# Altium schematic symbol library Connector.SchLib: 37 symbols
Pins are listed as number, name and electrical type; pins without a type are passive.

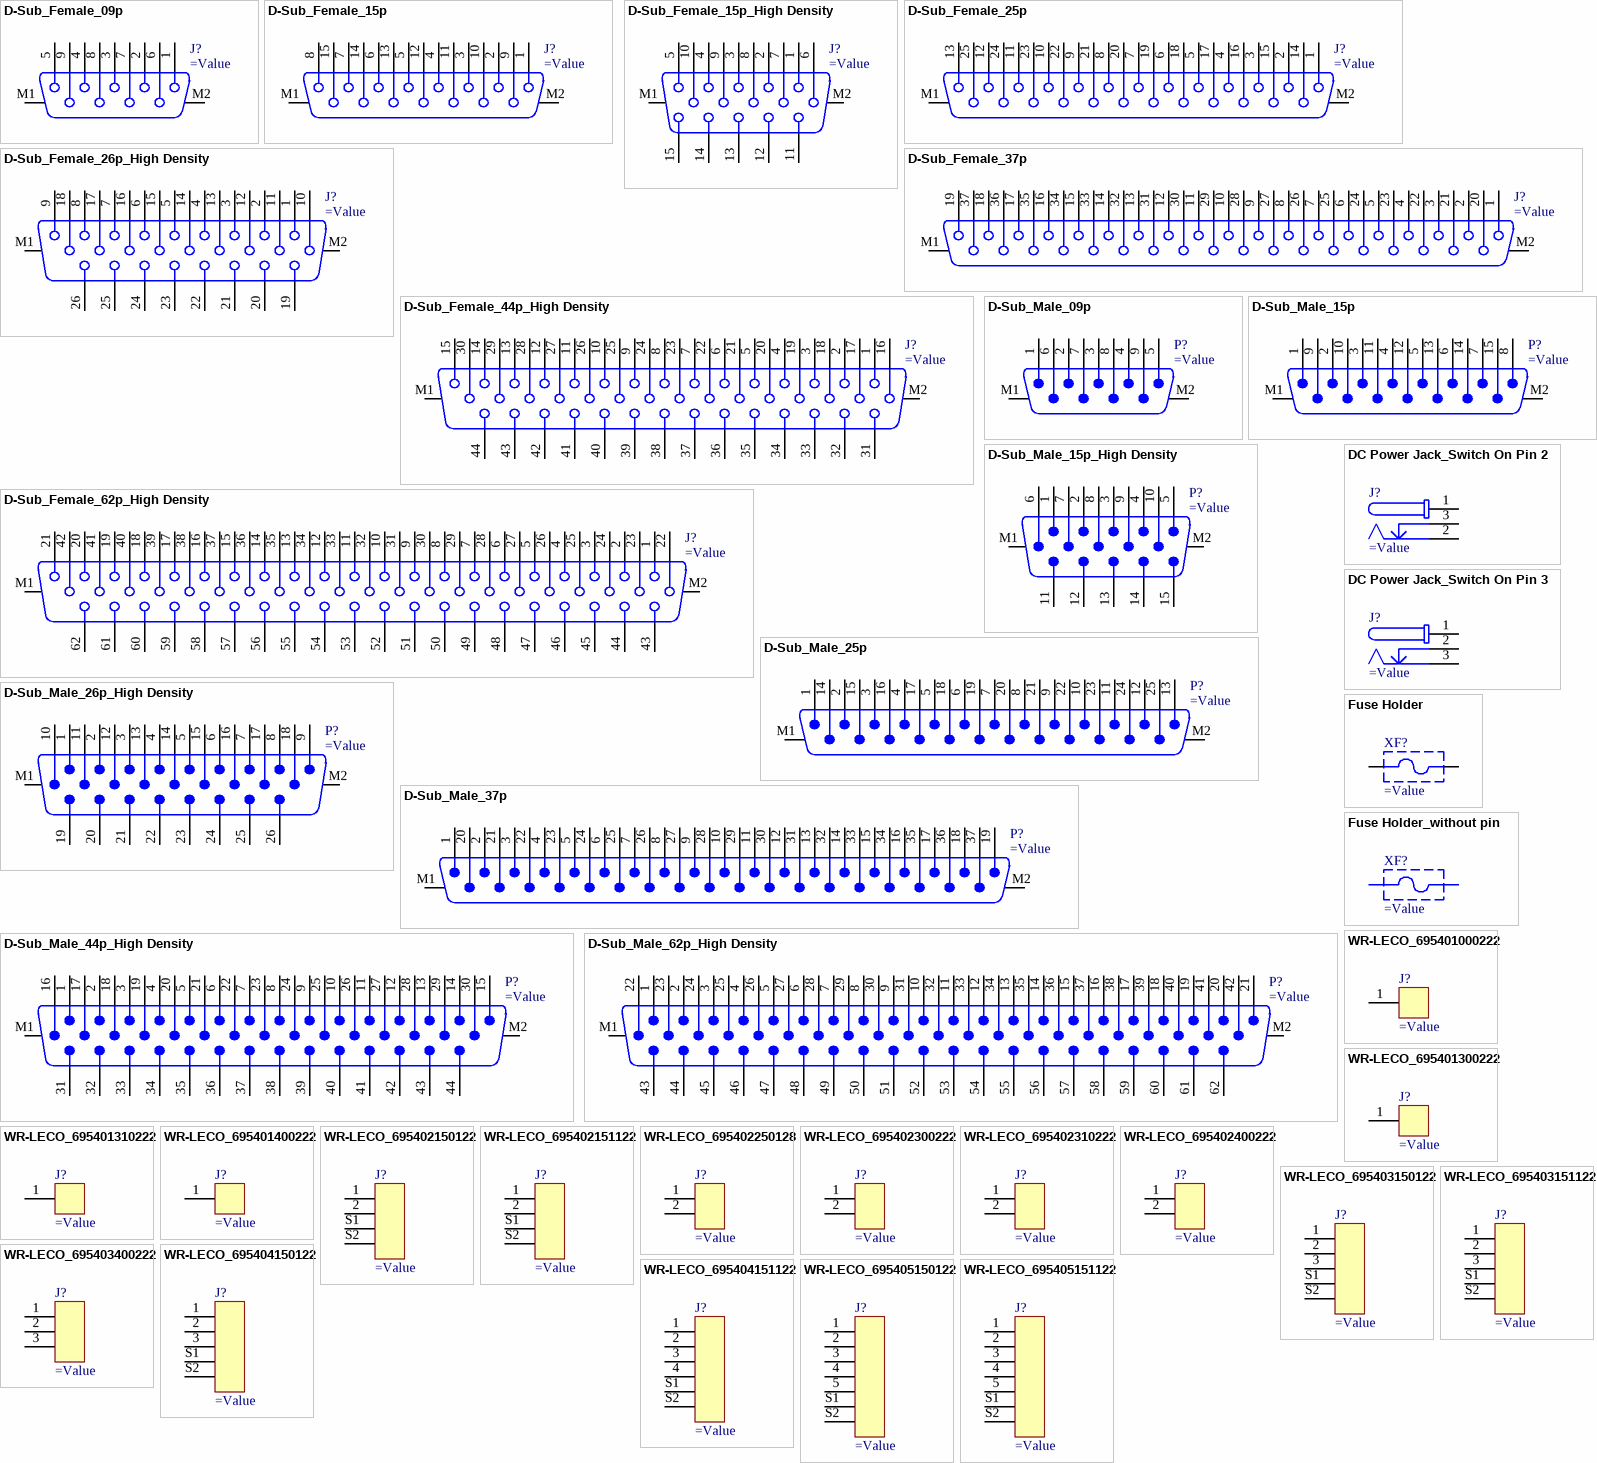
[diagram p0: symbols D-Sub_Female_09p to WR-LECO_695405151122]

## D-Sub_Female_09p
designator J?
pins: 1, 2, 3, 4, 5, 6, 7, 8, 9, M1, M2

## D-Sub_Female_15p
designator J?
pins: 1, 2, 3, 4, 5, 6, 7, 8, 9, 10, 11, 12, 13, 14, 15, M1, M2

## D-Sub_Female_15p_High Density
designator J?
pins: 1, 2, 3, 4, 5, 6, 7, 8, 9, 10, 11, 12, 13, 14, 15, M1, M2

## D-Sub_Female_25p
designator J?
pins: 1, 2, 3, 4, 5, 6, 7, 8, 9, 10, 11, 12, 13, 14, 15, 16, 17, 18, 19, 20, 21, 22, 23, 24, 25, M1, M2

## D-Sub_Female_26p_High Density
designator J?
pins: 1, 2, 3, 4, 5, 6, 7, 8, 9, 10, 11, 12, 13, 14, 15, 16, 17, 18, 19, 20, 21, 22, 23, 24, 25, 26, M1, M2

## D-Sub_Female_37p
designator J?
pins: 1, 2, 3, 4, 5, 6, 7, 8, 9, 10, 11, 12, 13, 14, 15, 16, 17, 18, 19, 20, 21, 22, 23, 24, 25, 26, 27, 28, 29, 30, 31, 32, 33, 34, 35, 36, 37, M1, M2

## D-Sub_Female_44p_High Density
designator J?
pins: 1, 2, 3, 4, 5, 6, 7, 8, 9, 10, 11, 12, 13, 14, 15, 16, 17, 18, 19, 20, 21, 22, 23, 24, 25, 26, 27, 28, 29, 30, 31, 32, 33, 34, 35, 36, 37, 38, 39, 40, 41, 42, 43, 44, M1, M2

## D-Sub_Female_62p_High Density
designator J?
pins: 1, 2, 3, 4, 5, 6, 7, 8, 9, 10, 11, 12, 13, 14, 15, 16, 17, 18, 19, 20, 21, 22, 23, 24, 25, 26, 27, 28, 29, 30, 31, 32, 33, 34, 35, 36, 37, 38, 39, 40, 41, 42, 43, 44, 45, 46, 47, 48, 49, 50, 51, 52, 53, 54, 55, 56, 57, 58, 59, 60, 61, 62, M1, M2

## D-Sub_Male_09p
designator P?
pins: 1, 2, 3, 4, 5, 6, 7, 8, 9, M1, M2

## D-Sub_Male_15p
designator P?
pins: 1, 2, 3, 4, 5, 6, 7, 8, 9, 10, 11, 12, 13, 14, 15, M1, M2

## D-Sub_Male_15p_High Density
designator P?
pins: 1, 2, 3, 4, 5, 6, 7, 8, 9, 10, 11, 12, 13, 14, 15, M1, M2

## D-Sub_Male_25p
designator P?
pins: 1, 2, 3, 4, 5, 6, 7, 8, 9, 10, 11, 12, 13, 14, 15, 16, 17, 18, 19, 20, 21, 22, 23, 24, 25, M1, M2

## D-Sub_Male_26p_High Density
designator P?
pins: 1, 2, 3, 4, 5, 6, 7, 8, 9, 10, 11, 12, 13, 14, 15, 16, 17, 18, 19, 20, 21, 22, 23, 24, 25, 26, M1, M2

## D-Sub_Male_37p
designator P?
pins: 1, 2, 3, 4, 5, 6, 7, 8, 9, 10, 11, 12, 13, 14, 15, 16, 17, 18, 19, 20, 21, 22, 23, 24, 25, 26, 27, 28, 29, 30, 31, 32, 33, 34, 35, 36, 37, M1, M2

## D-Sub_Male_44p_High Density
designator P?
pins: 1, 2, 3, 4, 5, 6, 7, 8, 9, 10, 11, 12, 13, 14, 15, 16, 17, 18, 19, 20, 21, 22, 23, 24, 25, 26, 27, 28, 29, 30, 31, 32, 33, 34, 35, 36, 37, 38, 39, 40, 41, 42, 43, 44, M1, M2

## D-Sub_Male_62p_High Density
designator P?
pins: 1, 2, 3, 4, 5, 6, 7, 8, 9, 10, 11, 12, 13, 14, 15, 16, 17, 18, 19, 20, 21, 22, 23, 24, 25, 26, 27, 28, 29, 30, 31, 32, 33, 34, 35, 36, 37, 38, 39, 40, 41, 42, 43, 44, 45, 46, 47, 48, 49, 50, 51, 52, 53, 54, 55, 56, 57, 58, 59, 60, 61, 62, M1, M2

## DC Power Jack_Switch On Pin 2
designator J?
pins: 1, 2, 3

## DC Power Jack_Switch On Pin 3
designator J?
pins: 1, 2, 3

## Fuse Holder
designator XF?
pins: 1, 2

## Fuse Holder_without pin
designator XF?

## WR-LECO_695401000222
designator J?
pins: 1

## WR-LECO_695401300222
designator J?
pins: 1

## WR-LECO_695401310222
designator J?
pins: 1

## WR-LECO_695401400222
designator J?
pins: 1

## WR-LECO_695402150122
designator J?
pins: 1, 2, S1 Shell, S2 Shell

## WR-LECO_695402151122
designator J?
pins: 1, 2, S1 Shell, S2 Shell

## WR-LECO_695402250128
designator J?
pins: 1, 2

## WR-LECO_695402300222
designator J?
pins: 1, 2

## WR-LECO_695402310222
designator J?
pins: 1, 2

## WR-LECO_695402400222
designator J?
pins: 1, 2

## WR-LECO_695403150122
designator J?
pins: 1, 2, 3, S1 Shell, S2 Shell

## WR-LECO_695403151122
designator J?
pins: 1, 2, 3, S1 Shell, S2 Shell

## WR-LECO_695403400222
designator J?
pins: 1, 2, 3

## WR-LECO_695404150122
designator J?
pins: 1, 2, 3, S1 Shell, S2 Shell

## WR-LECO_695404151122
designator J?
pins: 1, 2, 3, 4, S1 Shell, S2 Shell

## WR-LECO_695405150122
designator J?
pins: 1, 2, 3, 4, 5, S1 Shell, S2 Shell

## WR-LECO_695405151122
designator J?
pins: 1, 2, 3, 4, 5, S1 Shell, S2 Shell